# EAGLE library part TPS2020 (library monome-inc)
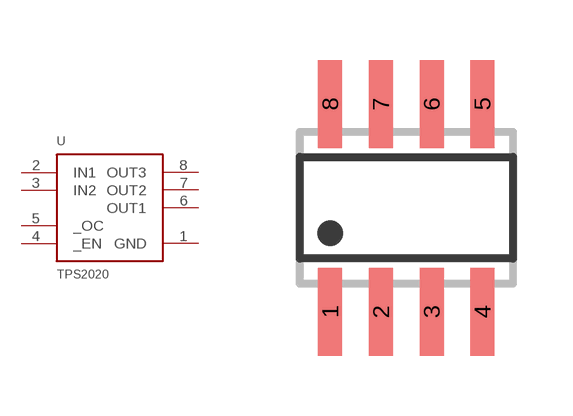
[diagram p6: symbol with the pads of SO08; footprint SO08]

Designator prefix -

## TPS2020  [SO08]
1  GND  nc
2  IN1  nc
3  IN2  nc
4  _EN  nc
5  _OC  nc
6  OUT1  nc
7  OUT2  nc
8  OUT3  nc

## Footprint SO08 (pad centres in mm)
SMALL OUTLINE INTEGRATED CIRCUIT body 3.9 mm/JEDEC MS-012AA
smd 0.6 x 2.2: 1 -1.905,-2.6; 2 -0.635,-2.6; 3 0.635,-2.6; 4 1.905,-2.6; 5 1.905,2.6; 6 0.635,2.6; 7 -0.635,2.6; 8 -1.905,2.6